# Altium schematic symbol library Capacitor.SchLib: 3 symbols
Pins are listed as number, name and electrical type; pins without a type are passive.

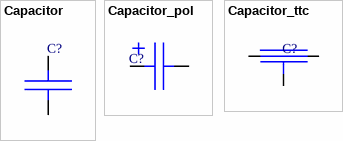
[diagram p0: symbols Capacitor to Capacitor_ttc]

## Capacitor
designator C?
Конденсатор
pins: 1, 2

## Capacitor_pol
designator C?
Конденсатор полярный
pins: 1, 2

## Capacitor_ttc
designator C?
Конденсатор
pins: 1, 2, 3